# EAGLE library part 43650-0800 (library con-Molex)
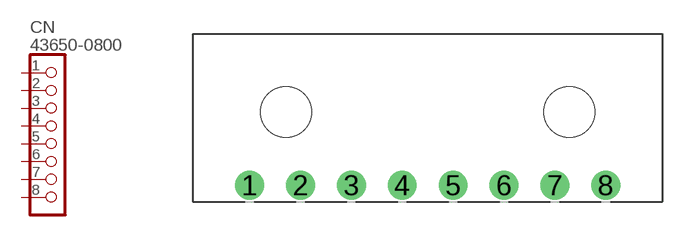
[diagram p6: symbol with the pads of 43650-0800; footprint 43650-0800]

Designator prefix CN

## 43650-0800  [43650-0800]
1  1  pas
2  2  pas
3  3  pas
4  4  pas
5  5  pas
6  6  pas
7  7  pas
8  8  pas

## Footprint 43650-0800 (pad centres in mm)
drill 1.1 pad 1.7: 1 -10.5,-4.32; 2 -7.5,-4.32; 3 -4.5,-4.32; 4 -1.5,-4.32; 5 1.5,-4.32; 6 4.5,-4.32; 7 7.5,-4.32; 8 10.5,-4.32
hole 3 at 8.35,0
hole 3 at -8.35,0